# Altium footprint library VQFN-20-3.5x4.5-EP.PcbLib: 1 footprints
Each footprint in its own frame and in the unit in brackets; x right, y up, seen from the top. Pads: shape width x height; smd on the part's side, far side on the other; paste and mask are expansions set on the pad; w line width, h text height; cw(c..) or ccw(c..) is an arc to the next point about the centre after c.
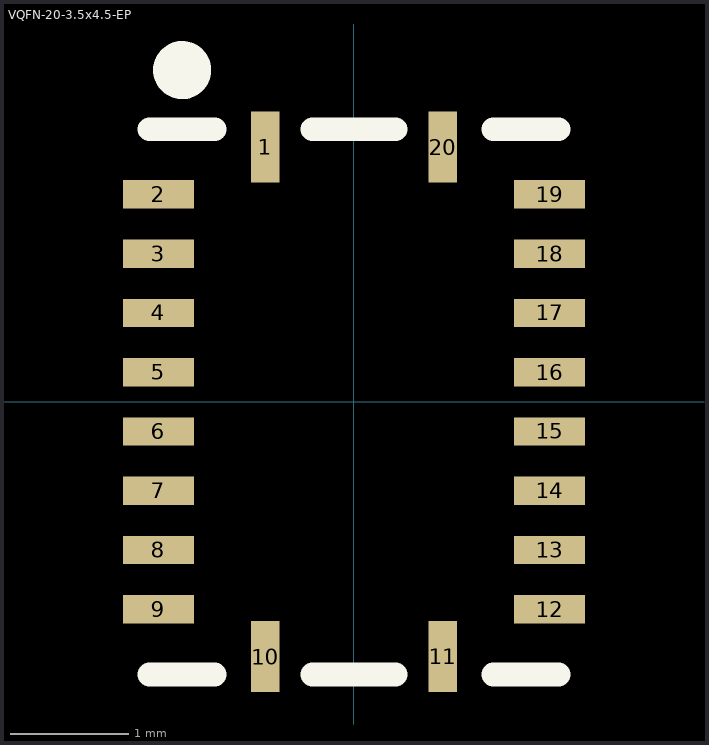
[diagram p0: the footprint, top view; thin cyan lines are the x and y axes]

## VQFN-20-3.5x4.5-EP [mm]
pads (20):
  rect 0.24x0.6 smd mask+0.05: 1(-0.75,2.15) 10(-0.75,-2.15) 11(0.75,-2.15) 20(0.75,2.15)
  rect 0.6x0.24 smd mask+0.05: 2(-1.65,1.75) 3(-1.65,1.25) 4(-1.65,0.75) 5(-1.65,0.25) 6(-1.65,-0.25) 7(-1.65,-0.75) 8(-1.65,-1.25) 9(-1.65,-1.75) 12(1.65,-1.75) 13(1.65,-1.25) 14(1.65,-0.75) 15(1.65,-0.25) 16(1.65,0.25) 17(1.65,0.75) 18(1.65,1.25) 19(1.65,1.75)
Top Overlay:
  circle w0.25: c-1.45,2.8 r0.12
  lines w0.2: -1.725,-2.3 -1.175,-2.3 ; -1.725,2.3 -1.175,2.3 ; -0.35,-2.3 0.35,-2.3 ; -0.35,2.3 0.35,2.3 ; 1.175,-2.3 1.725,-2.3 ; 1.175,2.3 1.725,2.3
3D body: height 0.9, standoff 0, extent -1.75,-2.25 1.75,2.25